# EAGLE library part EVA-8M (library habexpico8)
u-blox EVA GNSS module
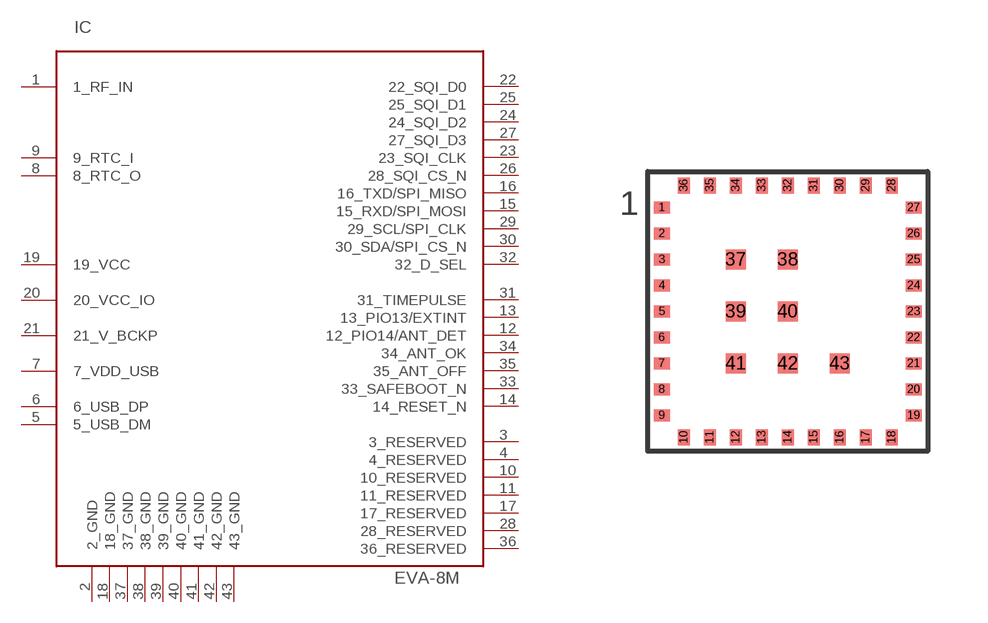
[diagram p2: symbol with the pads of EVA-8M; footprint EVA-8M]

Designator prefix IC

## EVA-8M  [EVA-8M]
1  1_RF_IN
2  2_GND
3  3_RESERVED
4  4_RESERVED
5  5_USB_DM
6  6_USB_DP
7  7_VDD_USB
8  8_RTC_O
9  9_RTC_I
10  10_RESERVED
11  11_RESERVED
12  12_PIO14/ANT_DET
13  13_PIO13/EXTINT
14  14_RESET_N
15  15_RXD/SPI_MOSI
16  16_TXD/SPI_MISO
17  17_RESERVED
18  18_GND
19  19_VCC
20  20_VCC_IO
21  21_V_BCKP
22  22_SQI_D0
23  23_SQI_CLK
24  24_SQI_D2
25  25_SQI_D1
26  28_SQI_CS_N
27  27_SQI_D3
28  28_RESERVED
29  29_SCL/SPI_CLK
30  30_SDA/SPI_CS_N
31  31_TIMEPULSE
32  32_D_SEL
33  33_SAFEBOOT_N
34  34_ANT_OK
35  35_ANT_OFF
36  36_RESERVED
37  37_GND
38  38_GND
39  39_GND
40  40_GND
41  41_GND
42  42_GND
43  43_GND

## Footprint EVA-8M (pad centres in mm)
u-blox EVA GNSS module
smd 0.4 x 0.3: 1 -3.15,2.6; 2 -3.15,1.95; 3 -3.15,1.3; 4 -3.15,0.65; 5 -3.15,0; 6 -3.15,-0.65; 7 -3.15,-1.3; 8 -3.15,-1.95; 9 -3.15,-2.6; 19 3.15,-2.6; 20 3.15,-1.95; 21 3.15,-1.3; 22 3.15,-0.65; 23 3.15,0; 24 3.15,0.65; 25 3.15,1.3; 26 3.15,1.95; 27 3.15,2.6
smd 0.3 x 0.4: 10 -2.6,-3.15; 11 -1.95,-3.15; 12 -1.3,-3.15; 13 -0.65,-3.15; 14 0,-3.15; 15 0.65,-3.15; 16 1.3,-3.15; 17 1.95,-3.15; 18 2.6,-3.15; 28 2.6,3.15; 29 1.95,3.15; 30 1.3,3.15; 31 0.65,3.15; 32 0,3.15; 33 -0.65,3.15; 34 -1.3,3.15; 35 -1.95,3.15; 36 -2.6,3.15
smd 0.5 x 0.5: 37 -1.3,1.3; 38 0,1.3; 39 -1.3,0; 40 0,0; 41 -1.3,-1.3; 42 0,-1.3; 43 1.3,-1.3